# EAGLE library part 47* (library eeram)
4K/16K I2C Serial EERAM
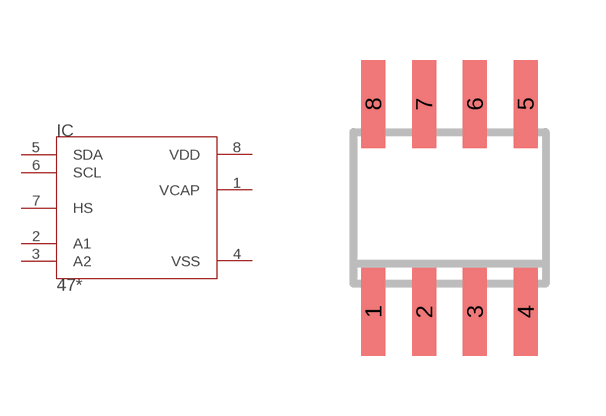
[diagram p0: symbol with the pads of SO8; footprint SO8]

Designator prefix IC

## 47C04, 47C16, 47L04, 47L16  [SO8]
1  VCAP
2  A1
3  A2
4  VSS
5  SDA
6  SCL
7  HS
8  VDD

## Footprint SO8 (pad centres in mm)
SMALL OUTLINE INTEGRATED CIRCUIT
smd 0.6 x 2.2: 1 -1.905,-2.6; 2 -0.635,-2.6; 3 0.635,-2.6; 4 1.905,-2.6; 5 1.905,2.6; 6 0.635,2.6; 7 -0.635,2.6; 8 -1.905,2.6